# Altium footprint library 28PinArduino.PcbLib: 26 footprints (part 1 of 2)
Each footprint in its own frame and in the unit in brackets; x right, y up, seen from the top. Pads: shape width x height; smd on the part's side, far side on the other; paste and mask are expansions set on the pad; w line width, h text height; cw(c..) or ccw(c..) is an arc to the next point about the centre after c.
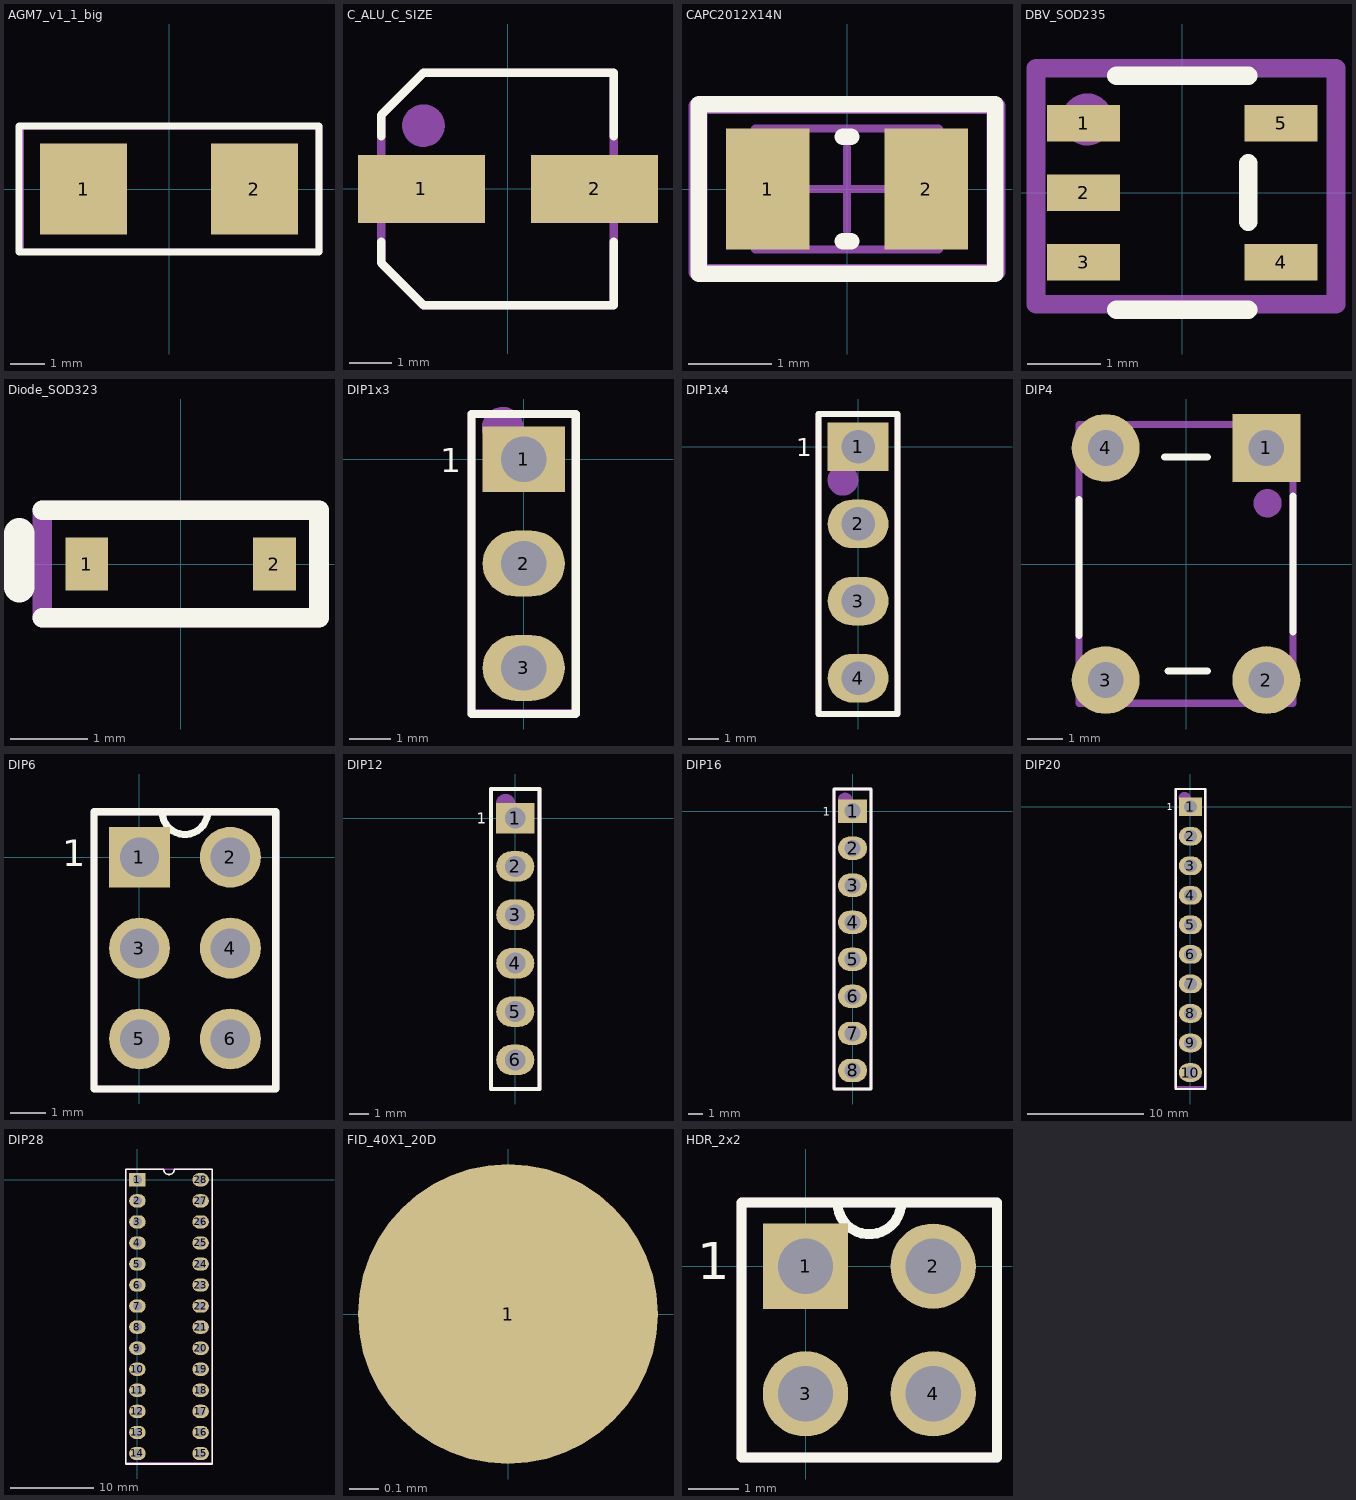
[diagram p0: the footprints below, top view; thin cyan lines are the x and y axes]

## 28_DIP_SOCKET [mm]
3D body "dil_socket.stp": height 4.2, standoff -3.17, extent -1.24,-34.26 8.86,1.24

## AGM7_v1_1_big [mm]
pads (2):
  rect 2.5x2.6 smd: 1(-2.45,0) 2(2.45,0)
Top Overlay:
  lines w0.2: -4.3,-1.8 4.3,-1.8 4.3,1.8 -4.3,1.8 -4.3,0.6 -4.3,-1.8
Mechanical 29:
  lines w0.198: -4.252,-1.8 4.3,-1.8 4.3,1.8 -4.252,1.8 -4.252,-1.8
  text "'.Designator'" at 0.048,0 h0.5
3D body "ABM7.STEP": height 1.4, standoff 0, extent -2.949,-1.752 3.045,1.753

## C_ALU_C_SIZE [mm]
pads (2):
  rect 3x1.6 smd: 1(-2.05,0) 2(2.05,0)
Top Overlay:
  lines w0.2: -3,-1.25 -3,-1.75 -2,-2.75 -1.75,-2.75 2.5,-2.75 2.5,-1.25 ; -3,1.25 -3,1.75 -2,2.75 -1.75,2.75 0,2.75 2.5,2.75 2.5,1.25
Mechanical 29:
  circle w0.508: c-2,1.5 r0.25
  lines w0.2: 2.5,-2.75 -2,-2.75 -3,-1.75 -3,1.75 -2,2.75 2.5,2.75 2.5,-2.75 ; 2.5,-2.75 2.5,-2.75
  text "'.Designator'" at 0,0 h0.5
3D body "User Library-capacitor size C.STEP": height 5.41, standoff -0.01, extent -3.2,-2.65 2.7,2.65

## CAPC2012X14N [mm] "Chip Capacitor, 2-Leads, Body 2.00x1.25mm, IPC Medium Density"
height 1.45
pads (2):
  rect 1x1.45 smd: 1(-0.95,0) 2(0.95,0)
Top Overlay:
  lines w0.198: -1.778,-1.016 1.778,-1.016 1.778,1.016 -1.778,1.016 -1.778,-1.016
  lines w0.2: -0.05,-0.625 0.05,-0.625 ; -0.05,0.625 0.05,0.625
Mechanical 13:
  lines w0.1: -1.1,-0.725 -1.1,0.725 1.1,0.725 1.1,-0.725 -1.1,-0.725
Mechanical 15:
  lines w0.05: -1.7,-1 -1.7,1 1.7,1 1.7,-1 -1.7,-1
  lines w0.1: -0.5,0 0.5,0 ; 0,-0.5 0,0.5
Mechanical 29:
  lines w0.2: -1.8,-1 1.8,-1 1.8,1 -1.8,1 -1.8,-1
  text "'.Designator'" at 0,0 h0.5
3D body "CAPC2012X14N.step": height 1.45, standoff 0, extent -1.1,-0.725 1.1,0.725

## DBV_SOD235 [mm]
pads (5):
  rect 1x0.5 smd: 1(-1.35,0.95) 2(-1.35,0) 3(-1.35,-0.95) 4(1.35,-0.95) 5(1.35,0.95)
Top Overlay:
  lines w0.254: -0.9,-1.6 0.9,-1.6 ; -0.9,1.6 0.9,1.6 ; 0.9,-0.4 0.9,0.4
Mechanical 29:
  circle w0.508: c-1.3,1 r0.1
  lines w0.254: -2,-1.525 -2,1.3 -2,1.7 2.1,1.7 2.1,1.4 2.1,-1.525 -2,-1.525
  text "'.Designator'" at 0,0 h1.27
3D body "User Library-TPS79333DBVR.STEP": height 1.6, standoff -0.02, extent -1.513,-1.525 1.514,1.525

## Diode_SOD323 [mil]
pads (2):
  rect 22x27 smd: 1(-48,0) 2(48,0)
Top Overlay:
  lines w10: -70.87,-27.56 70.87,-27.56 70.87,27.56 -70.87,27.56
  lines w15.75: -82.68,-11.81 -82.68,15.75
Mechanical 29:
  lines w10: -70.87,-27.56 70.87,-27.56 70.87,27.56 -70.87,27.56 -70.87,-27.56
  text "'.Designator'" at 0,0 h50
3D body "User Library-SOD323.STEP": height 35.43, standoff -3.54, extent -49.21,-23.62 49.22,25.59

## DIP1x3 [mm]
pads (3):
  rect 2x1.6 hole 1.1: 1(0,0)
  oval 2x1.6 hole 1.1: 2(0,-2.54) 3(0,-5.08)
Top Overlay:
  lines w0.2: -1.27,-6.2 -1.27,1.1 1.27,1.1 1.27,-6.2 -1.27,-6.2
  text "1" at -2.032,-0.508 h1
Mechanical 29:
  circle w0.508: c-0.508,0.762 r0.254
  lines w0.198: -1.27,-6.173 1.27,-6.173 1.27,1.1 -1.27,1.1
  lines w0.2: -1.27,-6.173 -1.27,1.1
  text "'.Designator'" at -0.5,-1.9 h1.27
3D body "HDR_1x3_White.stp": height 8.1, standoff -3.4, extent -1.175,-6.173 1.235,1.047

## DIP1x4 [mm]
pads (4):
  rect 2x1.6 hole 1.1: 1(0,0)
  oval 2x1.6 hole 1.1: 2(0,-2.54) 3(0,-5.08) 4(0,-7.62)
Top Overlay:
  lines w0.2: -1.3,-8.8 -1.3,1.08 1.3,1.08 1.3,-8.8 -1.3,-8.8
  text "1" at -2.032,-0.508 h1
Mechanical 29:
  circle w0.508: c-0.5,-1.1 r0.254
  lines w0.198: -1.3,-8.8 1.3,-8.8 1.3,1.08 -1.3,1.08
  lines w0.2: -1.3,-8.8 -1.3,1.08
  text "'.Designator'" at -0.5,-1 h1.27
3D body "HDR_1x4_White.stp": height 8.1, standoff -3.4, extent -1.21,-8.68 1.2,1.08

## DIP4 [mm]
pads (4):
  rect 1.9x1.9 hole 1: 1(2.25,3.25)
  round 1.9 hole 1: 2(2.25,-3.25) 3(-2.25,-3.25) 4(-2.25,3.25)
Top Overlay:
  lines w0.198: -3,-2 -3,1.8 ; -0.6,3 0.6,3 ; -0.5,-3 0.6,-3 ; 3,-1.9 3,1.9 3,0
Mechanical 29:
  circle w0.508: c2.283,1.7 r0.141
  lines w0.198: -2.995,-3.898 2.995,-3.898 2.995,3.9 -2.995,3.9 -2.995,-3.898
  text ".Designator" at -1.6,-0.9 h2.2
3D body "User Library-FSM4JLH(1825910-5).STEP": height 5, standoff -3.51, extent -2.995,-3.898 2.995,3.9

## DIP6 [mm]
pads (6):
  rect 1.7x1.7 hole 1.1: 1(0,0)
  round 1.7 hole 1.1: 2(2.54,0) 3(0,-2.54) 4(2.54,-2.54) 5(0,-5.08) 6(2.54,-5.08)
Top Overlay:
  lines w0.2: -1.27,-6.477 3.81,-6.477 3.81,1.27 0.635,1.27 ccw(c1.27,1.27) 1.905,1.27 -1.27,1.27 -1.27,-6.477
  text "1" at -2.159,-0.508 h1.27
Mechanical 29:
  circle w0.508: c0,0 r0.18
  lines w0.198: -1.27,-6.477 3.81,-6.477 3.81,1.27 -1.27,1.27 -1.27,-6.477
  text "'.Designator'" at 1.27,-2.54 h0.5
3D body "User Library-2x3 TH Pitch 2_54mm.STEP": height 9.2, standoff -3.5, extent -1.27,-6.35 3.81,1.27

## DIP12 [mm]
pads (6):
  rect 2x1.6 hole 1.1: 1(0,0)
  oval 2x1.6 hole 1.1: 2(0,-2.54) 3(0,-5.08) 4(0,-7.62) 5(0,-10.16) 6(0,-12.7)
Top Overlay:
  lines w0.2: -1.27,-14.224 1.27,-14.224 1.27,1.524 -1.27,1.524 -1.27,-14.224
  text "1" at -2.032,-0.508 h1
Mechanical 29:
  circle w0.508: c-0.508,0.762 r0.254
  lines w0.198: -1.27,-14.224 1.27,-14.224 1.27,1.524 -1.27,1.524
  lines w0.2: -1.27,-14.224 -1.27,1.524
  text "'.Designator'" at -0.508,-2.286 h1.27
3D body "m20-7820646_asm.stp": height 8.38, standoff -3.12, extent -1.176,-14.294 1.324,1.346

## DIP16 [mm]
pads (8):
  rect 2x1.6 hole 1.1: 1(0,0)
  oval 2x1.6 hole 1.1: 2(0,-2.54) 3(0,-5.08) 4(0,-7.62) 5(0,-10.16) 6(0,-12.7) 7(0,-15.24) 8(0,-17.78)
Top Overlay:
  lines w0.2: -1.27,-19.05 1.27,-19.05 1.27,1.524 -1.27,1.524 -1.27,-19.05
  text "1" at -2.032,-0.508 h1
Mechanical 29:
  circle w0.508: c-0.508,0.762 r0.254
  lines w0.198: -1.27,-19.05 1.27,-19.05 1.27,1.524 -1.27,1.524
  lines w0.2: -1.27,-19.05 -1.27,1.524
  text "'.Designator'" at -0.508,-2.286 h1.27
3D body "m20-7820842_asm.stp": height 8.38, standoff -3.12, extent -1.176,-19.12 1.324,1.6

## DIP20 [mm]
pads (10):
  rect 2x1.6 hole 1.1: 1(0,0)
  oval 2x1.6 hole 1.1: 2(0,-2.54) 3(0,-5.08) 4(0,-7.62) 5(0,-10.16) 6(0,-12.7) 7(0,-15.24) 8(0,-17.78) 9(0,-20.32) 10(0,-22.86)
Top Overlay:
  lines w0.2: -1.27,-24.276 1.27,-24.276 1.27,1.524 -1.27,1.524 -1.27,-24.276
  text "1" at -2.032,-0.508 h1
Mechanical 29:
  circle w0.508: c-0.508,0.762 r0.254
  lines w0.198: -1.27,-24.13 1.27,-24.13 1.27,1.524 -1.27,1.524
  lines w0.2: -1.27,-24.13 -1.27,1.524
  text "'.Designator'" at -0.508,-2.286 h1.27
3D body "m20-7821046_asm.stp": height 8.38, standoff -3.12, extent -1.27,-24.276 1.23,1.524

## DIP28 [mm]
pads (28):
  rect 2x1.6 hole 1.1: 1(0,0)
  oval 2x1.6 hole 1.1: 2(0,-2.54) 3(0,-5.08) 4(0,-7.62) 5(0,-10.16) 6(0,-12.7) 7(0,-15.24) 8(0,-17.78) 9(0,-20.32) 10(0,-22.86) 11(0,-25.4) 12(0,-27.94) 13(0,-30.48) 14(0,-33.02) 15(7.62,-33.02) 16(7.62,-30.48) 17(7.62,-27.94) 18(7.62,-25.4) 19(7.62,-22.86) 20(7.62,-20.32) 21(7.62,-17.78) 22(7.62,-15.24) 23(7.62,-12.7) 24(7.62,-10.16) 25(7.62,-7.62) 26(7.62,-5.08) 27(7.62,-2.54) 28(7.62,0)
Top Overlay:
  lines w0.2: -1.397,-34.29 9.017,-34.29 9.017,1.27 4.445,1.27 cw(c3.81,1.27) 3.175,1.27 -1.397,1.27 -1.397,-34.29
Mechanical 29:
  circle w0.5: c0,0 r0.24
  lines w0.2: -1.397,-34.163 -1.397,1.27 9.017,1.27 9.017,1.143 9.017,-34.163 -1.397,-34.163
  text "'.Designator'" at 4.953,-17.018 h3
3D body "User Library-User Library-ATmega 48_88_168_328 28P3_90DEG.STEP": height 8.04, standoff 0.92, extent -0.016,-33.835 7.89,0.815

## FID_40X1_20D [mil]
pads (1):
  round 40 smd paste-40 mask+40: 1(0,0)

## HDR_2x2 [mm]
pads (4):
  rect 1.7x1.7 hole 1.1: 1(0,0)
  round 1.7 hole 1.1: 2(2.54,0) 3(0,-2.54) 4(2.54,-2.54)
Top Overlay:
  lines w0.2: -1.27,-3.81 3.81,-3.81 3.81,1.27 0.635,1.27 ccw(c1.27,1.27) 1.905,1.27 -1.27,1.27 -1.27,-3.81
  text "1" at -2.159,-0.508 h1.27
Mechanical 29:
  circle w0.508: c0,0 r0.18
  lines w0.198: -1.27,-3.81 3.81,-3.81 3.81,1.27 -1.27,1.27 -1.27,-3.81
  text "'.Designator'" at 1.143,-1.016 h0.5
3D body "Pin Header 2x2 TH Pitch 2.54mm.stp": height 9.5, standoff -3.2, extent -1.27,-3.81 3.81,1.27